# EAGLE library part ESP8266 (library ESP8266)
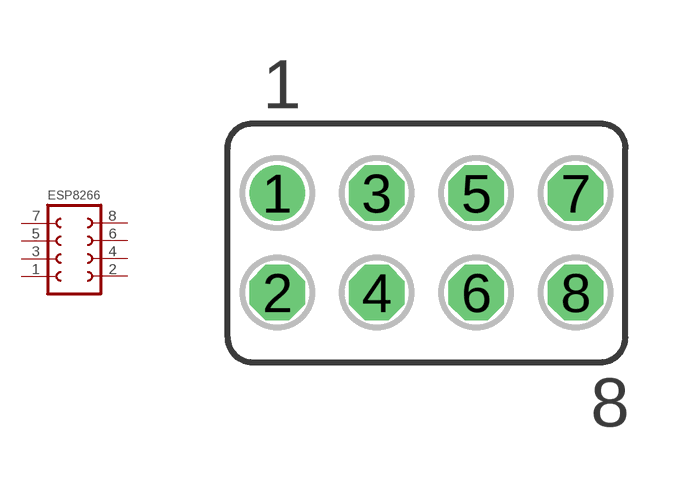
[diagram p0: symbol with the pads of ESP8266; footprint ESP8266]

Designator prefix -

## ESP8266  [ESP8266]
1  VCC  pas
2  RX  pas
3  RST  pas
4  GPIO0  pas
5  CH_PD  pas
6  GPIO2  pas
7  TX  pas
8  GND  pas

## Footprint ESP8266 (pad centres in mm)
drill 0.914: 1 -5.08,1.27
drill 0.914 octagon: 2 -5.08,-1.27; 3 -2.54,1.27; 4 -2.54,-1.27; 5 0,1.27; 6 0,-1.27; 7 2.54,1.27; 8 2.54,-1.27